# EAGLE library part MOLEX_SL_14 (library molex-sl-connectors_jw)
Molex SL-Series PCB Header, 14-Pos, 0.1" (2.54mm) Centers
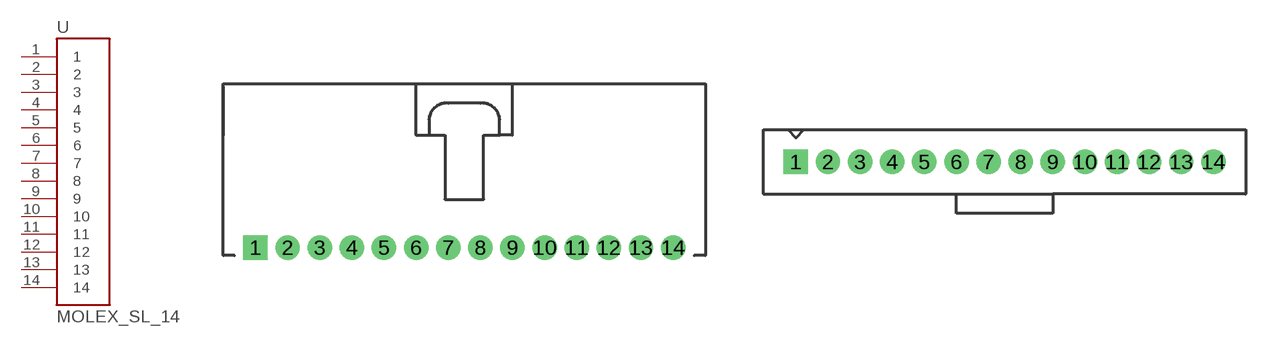
[diagram p8: symbol with the pads of SL_70553_14; footprints SL_70553_14, SL_70543_14]

Designator prefix -

## MOLEX_SL_14-70553  [SL_70553_14]
1  1
2  2
3  3
4  4
5  5
6  6
7  7
8  8
9  9
10  10
11  11
12  12
13  13
14  14

## MOLEX_SL_14-70543-74095  [SL_70543_14]
Pads as for SL_70553_14

## MOLEX_SL_14-70541-70545  [SL_70541_14]
Pads as for SL_70553_14

## MOLEX_SL_14-70551  [SL_70551_14]
Pads as for SL_70553_14

## MOLEX_SL_14-70555  [SL_70555_14]
Pads as for SL_70553_14

## MOLEX_SL_14-70634  [SL_70634_14]
Pads as for SL_70553_14

## MOLEX_SL_14-87898  [SL_87898_14]
Pads as for SL_70553_14

## Footprint SL_70553_14 (pad centres in mm)
Right-Angle Header w/ Latch (no pegs) 70553-0013 70553-0048 70553-0118 70553-0153
drill 1.1 pad 1.93 square: 1 -16.51,-5.08
drill 1.1 pad 1.93: 2 -13.97,-5.08; 3 -11.43,-5.08; 4 -8.89,-5.08; 5 -6.35,-5.08; 6 -3.81,-5.08; 7 -1.27,-5.08; 8 1.27,-5.08; 9 3.81,-5.08; 10 6.35,-5.08; 11 8.89,-5.08; 12 11.43,-5.08; 13 13.97,-5.08; 14 16.51,-5.08

## Footprint SL_70543_14 (pad centres in mm)
Vertical Header w/ Latch & Optional Compliant Pins (no pegs) Normal Pins: 70543-0013 70543-0048 70543-0083 70543-0118 70543-0153 70543-0177 70543-0212 70543-0260 70543-0284 70543-0308 Compliant Pins 74095-0014 74095-0044 74095-0074 74095-1044 74095-1074
drill 1.1 pad 1.93 square: 1 -16.51,1.27
drill 1.1 pad 1.93: 2 -13.97,1.27; 3 -11.43,1.27; 4 -8.89,1.27; 5 -6.35,1.27; 6 -3.81,1.27; 7 -1.27,1.27; 8 1.27,1.27; 9 3.81,1.27; 10 6.35,1.27; 11 8.89,1.27; 12 11.43,1.27; 13 13.97,1.27; 14 16.51,1.27

## Footprint SL_70541_14 (pad centres in mm)
Vertical Header w/ Latch & Pegs With Split Pegs: 70541-0013 70541-0048 70541-0083 With Tri-Pegs: 70545-0013 70545-0048 70545-0083
drill 1.1 pad 1.93 square: 1 -16.51,1.27
drill 1.1 pad 1.93: 2 -13.97,1.27; 3 -11.43,1.27; 4 -8.89,1.27; 5 -6.35,1.27; 6 -3.81,1.27; 7 -1.27,1.27; 8 1.27,1.27; 9 3.81,1.27; 10 6.35,1.27; 11 8.89,1.27; 12 11.43,1.27; 13 13.97,1.27; 14 16.51,1.27
hole 3.404 at -20.574,0.508
hole 3.404 at 20.574,0.508

## Footprint SL_70551_14 (pad centres in mm)
Right-Angle Header w/ Latch & Split Pegs 70551-0013 70551-0048 70551-0083
drill 1.1 pad 1.93 square: 1 -16.51,-5.08
drill 1.1 pad 1.93: 2 -13.97,-5.08; 3 -11.43,-5.08; 4 -8.89,-5.08; 5 -6.35,-5.08; 6 -3.81,-5.08; 7 -1.27,-5.08; 8 1.27,-5.08; 9 3.81,-5.08; 10 6.35,-5.08; 11 8.89,-5.08; 12 11.43,-5.08; 13 13.97,-5.08; 14 16.51,-5.08
hole 3.404 at -17.78,3.556
hole 3.404 at 17.78,3.556

## Footprint SL_70555_14 (pad centres in mm)
Right-Angle Header w/ Latch & Tri-Pegs 70555-0013 70555-0048 70555-0083 70555-5013
drill 1.1 pad 1.93 square: 1 -16.51,-5.08
drill 1.1 pad 1.93: 2 -13.97,-5.08; 3 -11.43,-5.08; 4 -8.89,-5.08; 5 -6.35,-5.08; 6 -3.81,-5.08; 7 -1.27,-5.08; 8 1.27,-5.08; 9 3.81,-5.08; 10 6.35,-5.08; 11 8.89,-5.08; 12 11.43,-5.08; 13 13.97,-5.08; 14 16.51,-5.08
hole 3.404 at -17.907,3.556
hole 3.404 at 17.907,3.556

## Footprint SL_70634_14 (pad centres in mm)
SMD Right-Angle Header w/ Latch & PCB Pegs 70634-0013 70634-0048 70634-0083 70634-0118 70634-0153 70634-0188 70634-0214
smd 1.651 x 5.334: 1 -16.51,-7.62; 2 -13.97,-7.62; 3 -11.43,-7.62; 4 -8.89,-7.62; 5 -6.35,-7.62; 6 -3.81,-7.62; 7 -1.27,-7.62; 8 1.27,-7.62; 9 3.81,-7.62; 10 6.35,-7.62; 11 8.89,-7.62; 12 11.43,-7.62; 13 13.97,-7.62; 14 16.51,-7.62
hole 3.404 at -17.932,3.048
hole 3.404 at 17.907,3.099

## Footprint SL_87898_14 (pad centres in mm)
SMD Vertical Header (no latch or pegs) Package also includes Pick-N-Place Cap Tube packaging w/o Pick-N-Place Cap: 87898-1421 87898-1422 87898-1424 87898-1425 87898-1426 Tube packaging w/ Pick-N-Place Cap: 87898-1431 87898-1432 87898-1434 87898-1435 87898-1436 Tape & Reel packaging w/ Pick-N-Place Cap: 87898-1451 87898-1452 87898-1454 87898-1455 87898-1456
smd 1.27 x 2.946: 1 -16.51,1.803; 2 -13.97,-1.803; 3 -11.43,1.803; 4 -8.89,-1.803; 5 -6.35,1.803; 6 -3.81,-1.803; 7 -1.27,1.803; 8 1.27,-1.803; 9 3.81,1.803; 10 6.35,-1.803; 11 8.89,1.803; 12 11.43,-1.803; 13 13.97,1.803; 14 16.51,-1.803